# Altium footprint library ADLibrary_Footprints.PcbLib: 42 footprints (part 2 of 3)
Each footprint in its own frame and in the unit in brackets; x right, y up, seen from the top. Pads: shape width x height; smd on the part's side, far side on the other; paste and mask are expansions set on the pad; w line width, h text height; cw(c..) or ccw(c..) is an arc to the next point about the centre after c.
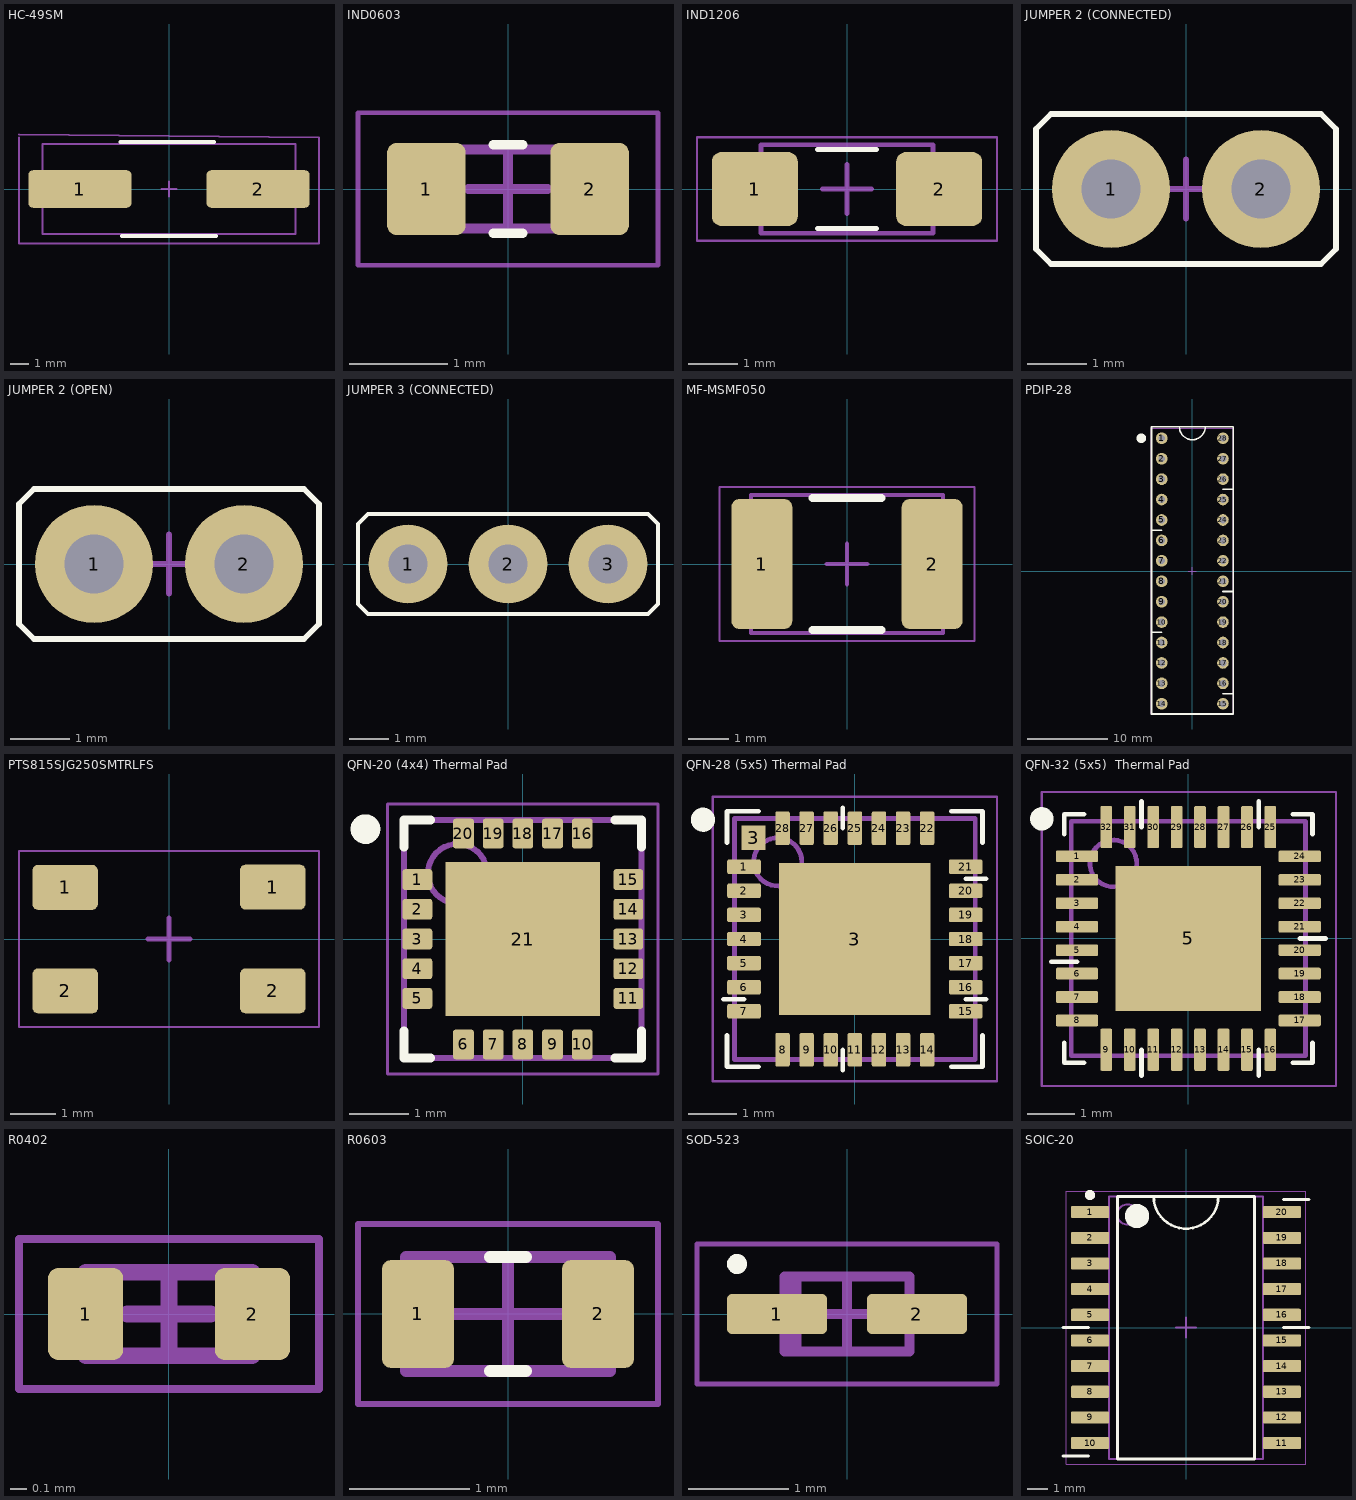
[diagram p1: the footprints below, top view; thin cyan lines are the x and y axes]

## HC-49SM [mm]
pads (2):
  rrect25% 5.5x2 smd: 1(-4.75,0) 2(4.75,0)
Top Overlay:
  lines w0.2: -2.6,2.5 2.4,2.5 ; -2.5,-2.5 2.5,-2.5
Mechanical 13:
  lines w0.1: -6.75,-2.4 6.75,-2.4 6.75,2.4 -6.75,2.4 -6.75,-2.4
Mechanical 15:
  lines w0.1: -8,2.75 -8,-2.9 8,-2.9 8,2.75 -8,2.9 ; -0.4,0 0.4,0 ; 0,-0.4 0,0.4
3D body "HC-49SM.stp": height 4, standoff 0, extent -6.7,-2.4 6.7,2.4

## IND0603 [mm] "Chip Inductor, 2-Leads, Body 1,60x0,80mm, IPC Medium Density"
height 0.8
pads (2):
  rrect25% 0.8x0.94 smd: 1(-0.83,0) 2(0.83,0)
Top Overlay:
  lines w0.1: -0.15,-0.45 0.15,-0.45 ; -0.15,0.45 0.15,0.45
Mechanical 13:
  lines w0.1: -0.8,-0.4 0.8,-0.4 0.8,0.4 -0.8,0.4 -0.8,-0.4
Mechanical 15:
  lines w0.05: -1.525,-0.775 1.525,-0.775 1.525,0.775 -1.525,0.775 -1.525,-0.775
  lines w0.1: -0.4,0 0.4,0 ; 0,-0.4 0,0.4
3D body "IND0603.STEP": height 0.95, standoff 0, extent -0.8,-0.4 0.8,0.4

## IND1206 [mm] "Chip Inductor, 2-Leads, Body 3,20x1,60mm, IPC Medium Density"
height 1.8
pads (2):
  rrect25% 1.75x1.5 smd: 1(-1.875,0) 2(1.875,0)
Top Overlay:
  lines w0.1: -0.6,-0.8 0.6,-0.8 ; -0.6,0.8 0.6,0.8
Mechanical 13:
  lines w0.1: -1.75,-0.9 -1.75,0.9 1.75,0.9 1.75,-0.9 -1.75,-0.9
Mechanical 15:
  lines w0.05: -3.05,-1.05 -3.05,1.05 3.05,1.05 3.05,-1.05 -3.05,-1.05
  lines w0.1: -0.5,0 0.5,0 ; 0,-0.5 0,0.5
3D body "LQH31CN100K03L.STEP": height 2, standoff 0, extent -1.6,-0.8 1.6,0.8

## JUMPER 2 (CONNECTED) [mm]
pads (2):
  round 2 hole 1: 1(-1.27,0) 2(1.27,0)
Top Overlay:
  lines w0.1: -2.54,-1.016 -2.286,-1.27 2.286,-1.27 2.54,-1.016 2.54,1.016 2.286,1.27 -2.286,1.27 -2.54,1.016 -2.54,-1.016
Mechanical 15:
  lines w0.1: -0.5,0 0.5,0 ; 0,-0.5 0,0.5
3D body "Jumper2-yellow.step": height 8.6, standoff -3, extent -2.6,-1.27 2.6,1.27

## JUMPER 2 (OPEN) [mm]
pads (2):
  round 2 hole 1: 1(-1.27,0) 2(1.27,0)
Top Overlay:
  lines w0.1: -2.54,-1.016 -2.54,1.016 -2.286,1.27 2.286,1.27 2.54,1.016 2.54,-1.016 2.286,-1.27 -2.286,-1.27 -2.54,-1.016
Mechanical 15:
  lines w0.1: -0.5,0 0.5,0 ; 0,-0.5 0,0.5
3D body "Pin Header 1x2.STEP": height 8.54, standoff -3, extent -2.54,-1.27 2.54,1.27

## JUMPER 3 (CONNECTED) [mm]
pads (3):
  round 2 hole 1: 1(-2.54,0) 2(0,0) 3(2.54,0)
Top Overlay:
  lines w0.1: -3.81,-1.016 -3.556,-1.27 3.556,-1.27 3.81,-1.016 3.81,1.016 3.556,1.27 -3.556,1.27 -3.81,1.016 -3.81,-1.016
Mechanical 15:
  lines w0.1: -0.5,0 0.5,0 ; 0,-0.5 0,0.5
3D body "Jumper3-yellow.step": height 8.6, standoff -3, extent -3.845,-1.27 3.835,1.27

## MF-MSMF050 [mm] "Fuse 0.5A"
height 0.85
pads (2):
  rrect25% 1.5x3.2 smd: 1(-2.1,0) 2(2.1,0)
Top Overlay:
  lines w0.2: -0.85,-1.625 0.85,-1.625 ; -0.85,1.625 0.85,1.625
Mechanical 13:
  lines w0.1: -2.365,-1.705 2.365,-1.705 2.365,1.705 -2.365,1.705 -2.365,-1.705
Mechanical 15:
  lines w0.05: -3.15,-1.9 3.15,-1.9 3.15,1.9 -3.15,1.9 -3.15,-1.9
  lines w0.1: -0.5,0 0.5,0 ; 0,-0.5 0,0.5
3D body "MF-MSMF050.STEP": height 0.85, standoff 0, extent -2.275,-1.62 2.275,1.62

## PDIP-28 [mm]
pads (28):
  round 1.45 hole 0.85: 1(-3.81,16.51) 2(-3.81,13.97) 3(-3.81,11.43) 4(-3.81,8.89) 5(-3.81,6.35) 6(-3.81,3.81) 7(-3.81,1.27) 8(-3.81,-1.27) 9(-3.81,-3.81) 10(-3.81,-6.35) 11(-3.81,-8.89) 12(-3.81,-11.43) 13(-3.81,-13.97) 14(-3.81,-16.51) 15(3.81,-16.51) 16(3.81,-13.97) 17(3.81,-11.43) 18(3.81,-8.89) 19(3.81,-6.35) 20(3.81,-3.81) 21(3.81,-1.27) 22(3.81,1.27) 23(3.81,3.81) 24(3.81,6.35) 25(3.81,8.89) 26(3.81,11.43) 27(3.81,13.97) 28(3.81,16.51)
Top Overlay:
  circle w0.6: c-6.35,16.51 r0.3
  lines w0.2: -5.08,-7.62 -3.81,-7.62 ; -5.08,5.08 -3.81,5.08 ; -1.6,17.93 ccw(c0,17.93) 1.6,17.93 ; 3.81,-15.24 5.08,-15.24 ; 3.81,-2.54 5.08,-2.54 ; 3.81,10.16 5.08,10.16 ; -5.08,-17.78 -5.08,17.93 5.08,17.93 5.08,-17.78 -5.08,-17.78
Mechanical 15:
  lines w0.05: -5.08,-17.78 5.08,-17.78 5.08,17.78 -5.08,17.78 -5.08,-17.78
  lines w0.1: -0.475,0 0.475,0 ; 0,-0.475 0,0.475
3D body "DIP 28-pin.step": height 4.55, standoff -2, extent -3.96,-17.6 3.96,17.6

## PTS815SJG250SMTRLFS [mm] "3.2x4.2 Tact Switch"
pads (4):
  rrect25% 1.45x1 smd: 1(-2.302,1.144) 1(2.3,1.15) 2(-2.3,-1.15) 2(2.3,-1.15)
Mechanical 15:
  lines w0.05: -3.325,-1.95 -3.325,1.95 3.325,1.95 3.325,-1.95 -3.325,-1.95
  lines w0.1: -0.475,0 0.475,0 ; 0,-0.475 0,0.475
3D body "PTS815SJG250SMTRLFS.stp": height 2.5, standoff 0, extent -2.25,-1.6 2.25,1.6

## QFN-20 (4x4) Thermal Pad [mm] "PQFN, 20-Leads, Body 4,00x4,00mm, Pitch 0,50mm, Thermal Pad 2,60x2,60mm, IPC Medium Density"
height 0.75
pads (21):
  rrect25% 0.5x0.35 smd: 1(-1.775,1) 2(-1.775,0.5) 3(-1.775,0) 4(-1.775,-0.5) 5(-1.775,-1) 11(1.775,-1) 12(1.775,-0.5) 13(1.775,0) 14(1.775,0.5) 15(1.775,1)
  rrect25% 0.35x0.5 smd: 6(-1,-1.775) 7(-0.5,-1.775) 8(0,-1.775) 9(0.5,-1.775) 10(1,-1.775) 16(1,1.775) 17(0.5,1.775) 18(0,1.775) 19(-0.5,1.775) 20(-1,1.775)
  rect 2.6x2.6 smd: 21(0,0)
Top Overlay:
  circle w0.25: c-2.65,1.85 r0.125
  lines w0.15: -2,-1.55 -2,-2 -1.55,-2 ; -2,1.55 -2,2 -1.55,2 ; 1.55,-2 2,-2 2,-1.55 ; 1.55,2 2,2 2,1.55
Mechanical 13:
  circle w0.1: c-1.1,1.1 r0.5
  lines w0.1: -2,-2 -2,2 2,2 2,-2 -2,-2
Mechanical 15:
  lines w0.05: -2.275,-2.275 -2.275,2.275 2.275,2.275 2.275,-2.275 -2.275,-2.275
  lines w0.1: -0.5,0 0.5,0 ; 0,-0.5 0,0.5
3D body "QFN-20 (4x4x0.9).step": height 0.92, standoff 0, extent -2,-2.011 2,1.989

## QFN-28 (5x5) Thermal Pad [mm] "QFN, 28-Leads, Body 5,00x5,00mm, Pitch 0,50mm, Thermal Pad 3,15x3,15mm, IPC Medium Density"
height 0.9
pads (30):
  rrect25% 0.7x0.3 smd: 1(-2.3,1.5) 2(-2.3,1) 3(-2.3,0.5) 4(-2.3,0) 5(-2.3,-0.5) 6(-2.3,-1) 7(-2.3,-1.5) 15(2.3,-1.5) 16(2.3,-1) 17(2.3,-0.5) 18(2.3,0) 19(2.3,0.5) 20(2.3,1) 21(2.3,1.5)
  rect 0.5x0.5 smd: 3(-2.1,2.1)
  rect 3.15x3.15 smd: 3(0,0)
  rrect25% 0.3x0.7 smd: 8(-1.5,-2.3) 9(-1,-2.3) 10(-0.5,-2.3) 11(0,-2.3) 12(0.5,-2.3) 13(1,-2.3) 14(1.5,-2.3) 22(1.5,2.3) 23(1,2.3) 24(0.5,2.3) 25(0,2.3) 26(-0.5,2.3) 27(-1,2.3) 28(-1.5,2.3)
Top Overlay:
  circle w0.25: c-3.15,2.475 r0.125
  lines w0.1: -2.725,-1.25 -2.3,-1.25 ; -2.65,-2 -2.65,-2.65 -2,-2.65 ; -2.65,2 -2.65,2.65 -2,2.65 ; -0.25,-2.725 -0.25,-2.3 ; -0.25,2.3 -0.25,2.725 ; 2,-2.65 2.65,-2.65 2.65,-2 ; 2,2.65 2.65,2.65 2.65,2 ; 2.3,-1.25 2.725,-1.25 ; 2.3,1.25 2.725,1.25
Mechanical 13:
  circle w0.1: c-1.6,1.6 r0.5
  lines w0.1: -2.5,-2.5 -2.5,2.5 2.5,2.5 2.5,-2.5 -2.5,-2.5
Mechanical 15:
  lines w0.05: -2.95,-2.95 -2.95,2.95 2.95,2.95 2.95,-2.95 -2.95,-2.95
  lines w0.1: -0.5,0 0.5,0 ; 0,-0.5 0,0.5
3D body "CP2102-GMR.STEP": height 1, standoff 0, extent -2.5,-2.5 2.5,2.5

## QFN-32 (5x5)  Thermal Pad [mm] "QFN, 32-Leads, Body 5,00x5,00mm, Pitch 0,50mm, Thermal Pad 3,10x3,10mm, IPC Medium Density"
height 0.9
pads (33):
  rrect25% 0.9x0.25 smd: 1(-2.375,1.75) 2(-2.375,1.25) 3(-2.375,0.75) 4(-2.375,0.25) 5(-2.375,-0.25) 6(-2.375,-0.75) 7(-2.375,-1.25) 8(-2.375,-1.75) 17(2.375,-1.75) 18(2.375,-1.25) 19(2.375,-0.75) 20(2.375,-0.25) 21(2.375,0.25) 22(2.375,0.75) 23(2.375,1.25) 24(2.375,1.75)
  rect 3.1x3.1 smd: 5(0,0)
  rrect25% 0.25x0.9 smd: 9(-1.75,-2.375) 10(-1.25,-2.375) 11(-0.75,-2.375) 12(-0.25,-2.375) 13(0.25,-2.375) 14(0.75,-2.375) 15(1.25,-2.375) 16(1.75,-2.375) 25(1.75,2.375) 26(1.25,2.375) 27(0.75,2.375) 28(0.25,2.375) 29(-0.25,2.375) 30(-0.75,2.375) 31(-1.25,2.375) 32(-1.75,2.375)
Top Overlay:
  circle w0.25: c-3.125,2.55 r0.125
  lines w0.1: -2.925,-0.5 -2.375,-0.5 ; -2.65,-2.225 -2.65,-2.65 -2.225,-2.65 ; -2.65,2.225 -2.65,2.65 -2.225,2.65 ; -1,-2.925 -1,-2.375 ; -1,2.375 -1,2.925 ; 1.5,-2.925 1.5,-2.375 ; 1.5,2.375 1.5,2.925 ; 2.225,-2.65 2.65,-2.65 2.65,-2.225 ; 2.225,2.65 2.65,2.65 2.65,2.225 ; 2.375,0 2.925,0
Mechanical 13:
  circle w0.1: c-1.6,1.6 r0.5
  lines w0.1: -2.5,-2.5 -2.5,2.5 2.5,2.5 2.5,-2.5 -2.5,-2.5
Mechanical 15:
  lines w0.05: -3.125,-3.15 3.15,-3.15 3.15,3.125 -3.125,3.125 -3.125,-3.15
  lines w0.1: -0.5,0 0.5,0 ; 0,-0.5 0,0.5
3D body "QFN-32 (5x5).step": height 0.9, standoff 0, extent -2.501,-2.501 2.501,2.501

## R0402 [mm] "Chip Resistor, 2-Leads, Body 1,00x0,50mm, IPC Medium Density"
height 0.35
pads (2):
  rrect25% 0.45x0.55 smd: 1(-0.5,0) 2(0.5,0)
Mechanical 13:
  lines w0.1: -0.5,-0.25 -0.5,0.25 0.5,0.25 0.5,-0.25 -0.5,-0.25
Mechanical 15:
  lines w0.05: -0.9,-0.45 -0.9,0.45 0.9,0.45 0.9,-0.45 -0.9,-0.45
  lines w0.1: -0.25,0 0.25,0 ; 0,-0.25 0,0.25
3D body "R0402.step": height 0.36, standoff 0.01, extent -0.508,-0.254 0.508,0.254

## R0603 [mm] "Chip Resistor, 2-Leads, Body 1,60x0,85mm, IPC Medium Density"
height 0.45
pads (2):
  rrect25% 0.6x0.9 smd: 1(-0.75,0) 2(0.75,0)
Top Overlay:
  lines w0.1: -0.15,-0.475 0.15,-0.475 ; -0.15,0.475 0.15,0.475
Mechanical 13:
  lines w0.1: -0.85,-0.475 -0.85,0.475 0.85,0.475 0.85,-0.475 -0.85,-0.475
Mechanical 15:
  lines w0.05: -1.25,-0.75 -1.25,0.75 1.25,0.75 1.25,-0.75 -1.25,-0.75
  lines w0.1: -0.475,0 0.475,0 ; 0,-0.475 0,0.475
3D body "R0603.stp": height 0.55, standoff 0, extent -0.85,-0.45 0.85,0.45

## SOD-523 [mm] "Molded Diode, 2-Leads, Body 1,25x0,80mm, IPC Medium Density"
height 0.65
pads (2):
  rrect25% 1x0.4 smd: 1(-0.7,0) 2(0.7,0)
Top Overlay:
  circle w0.1: c-1.1,0.5 r0.05
Mechanical 13:
  rectangle: -0.625,-0.375 -0.457,0.375
  lines w0.1: -0.625,-0.375 -0.625,0.375 0.625,0.375 0.625,-0.375 -0.625,-0.375
Mechanical 15:
  lines w0.05: -1.5,-0.7 -1.5,0.7 1.5,0.7 1.5,-0.7 -1.5,-0.7
  lines w0.1: -0.375,0 0.375,0 ; 0,-0.375 0,0.375
3D body "PMEG2010AEBF.STEP": height 0.65, standoff 0, extent -0.8,-0.4 0.8,0.4

## SOIC-20 [mm] "SOIC, 20-Leads, Body 12,80x7,50mm, Pitch 1,27mm, IPC Medium Density"
height 2.65
pads (20):
  rrect25% 1.9x0.6 smd: 1(-4.75,5.715) 2(-4.75,4.445) 3(-4.75,3.175) 4(-4.75,1.905) 5(-4.75,0.635) 6(-4.75,-0.635) 7(-4.75,-1.905) 8(-4.75,-3.175) 9(-4.75,-4.445) 10(-4.75,-5.715) 11(4.75,-5.715) 12(4.75,-4.445) 13(4.75,-3.175) 14(4.75,-1.905) 15(4.75,-0.635) 16(4.75,0.635) 17(4.75,1.905) 18(4.75,3.175) 19(4.75,4.445) 20(4.75,5.715)
Top Overlay:
  circle w0.25: c-4.75,6.565 r0.125
  circle w0.6: c-2.425,5.525 r0.3
  lines w0.127: -1.6,6.5 ccw(c0,6.5) 1.6,6.5
  lines w0.15: -6.096,-6.35 -4.826,-6.35 ; -6.096,0 -4.826,0 ; 4.826,0 6.096,0 ; 4.826,6.35 6.096,6.35 ; -3.4,-6.5 -3.4,6.5 3.4,6.5 3.4,-6.5 -3.4,-6.5
Mechanical 13:
  circle w0.1: c-2.9,5.6 r0.5
  lines w0.1: -3.8,-6.5 -3.8,6.5 3.8,6.5 3.8,-6.5 -3.8,-6.5
Mechanical 15:
  lines w0.05: -5.925,-6.75 -5.925,6.75 5.925,6.75 5.925,-6.75 -5.925,-6.75
  lines w0.1: -0.5,0 0.5,0 ; 0,-0.5 0,0.5
3D body "SO20 Wide 7.50mm.step": height 2.65, standoff 0, extent -5.15,-6.42 5.15,6.42